# EAGLE library part LME49811 (library ICs)
LME49811 Audio Power Amplifier Series High Fidelity 200 Volt Power Amplifier Input Stage with Shutdown
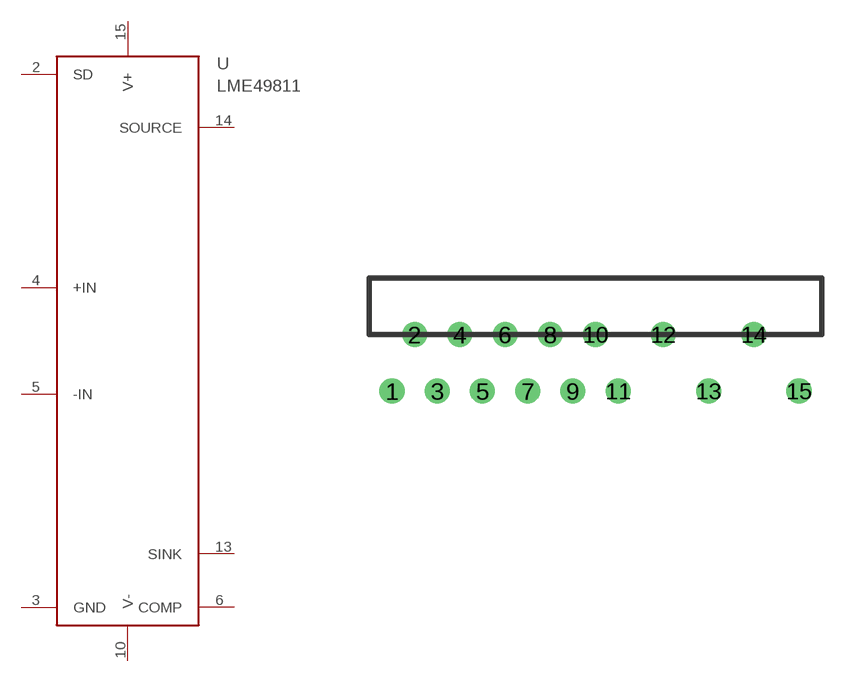
[diagram p0: symbol with the pads of LME498XX; footprint LME498XX]

Designator prefix U

## LME49811TB/NOPB (FARNELL: 1685355; VALUE: LME49811)  [LME498XX]
2  SD
3  GND
4  +IN
5  -IN
6  COMP
10  V-
13  SINK
14  SOURCE
15  V+

## Footprint LME498XX (pad centres in mm)
drill 0.6 pad 1: 1 -9,-2.5; 2 -8,0; 3 -7,-2.5; 4 -6,0; 5 -5,-2.5; 6 -4,0; 7 -3,-2.5; 8 -2,0; 9 -1,-2.5; 10 0,0; 11 1,-2.5; 12 3,0; 13 5,-2.5; 14 7,0; 15 9,-2.5